# Altium footprint library UmbilicalConnectors.PcbLib: 33 footprints (part 3 of 3)
Each footprint in its own frame and in the unit in brackets; x right, y up, seen from the top. Pads: shape width x height; smd on the part's side, far side on the other; paste and mask are expansions set on the pad; w line width, h text height; cw(c..) or ccw(c..) is an arc to the next point about the centre after c.
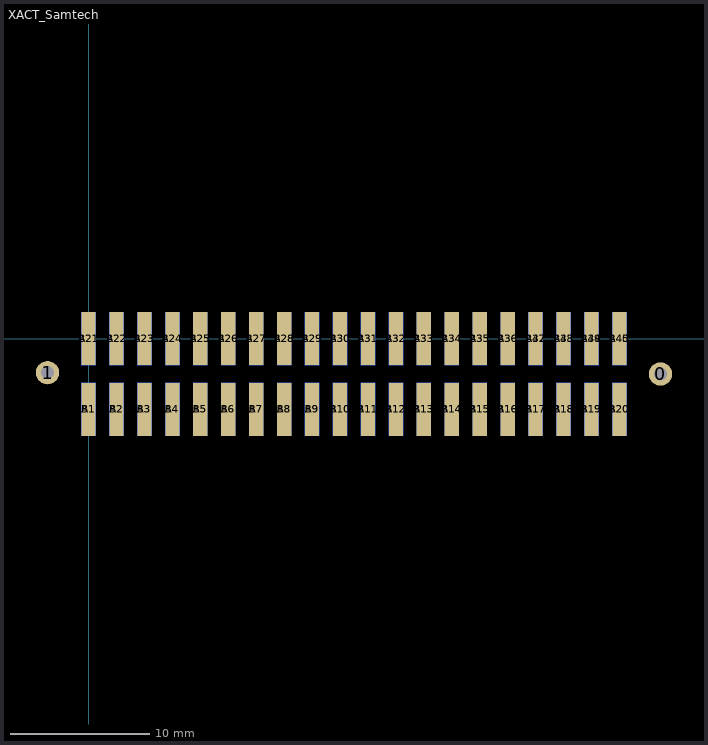
[diagram p2: the footprint, top view; thin cyan lines are the x and y axes]

## XACT_Samtech [mm] "T2M-140-01-L-D-SM-WT"
pads (82):
  round 1.676 hole 0.914 mask+0.076: 0(40.94,-2.535) 1(-2.94,-2.435)
  rect 1.02x3.8 smd: A1(0,-5.07) A2(2,-5.07) A3(4,-5.07) A4(6,-5.07) A5(8,-5.07) A6(10,-5.07) A7(12,-5.07) A8(14,-5.07) A9(16,-5.07) A10(18,-5.07) A11(20,-5.07) A12(22,-5.07) A13(24,-5.07) A14(26,-5.07) A15(28,-5.07) A16(30,-5.07) A17(32,-5.07) A18(34,-5.07) A19(36,-5.07) A20(38,-5.07) A21(0,0) A22(2,0) A23(4,0) A24(6,0) A25(8,0) A26(10,0) A27(12,0) A28(14,0) A29(16,0) A30(18,0) A31(20,0) A32(22,0) A33(24,0) A34(26,0) A35(28,0) A36(30,0) A37(32,0) A38(34,0) A39(36,0) A40(38,0)
  rect 1.02x3.8 smd far side: B1(0,-5.07) B2(2,-5.07) B3(4,-5.07) B4(6,-5.07) B5(8,-5.07) B6(10,-5.07) B7(12,-5.07) B8(14,-5.07) B9(16,-5.07) B10(18,-5.07) B11(20,-5.07) B12(22,-5.07) B13(24,-5.07) B14(26,-5.07) B15(28,-5.07) B16(30,-5.07) B17(32,-5.07) B18(34,-5.07) B19(36,-5.07) B20(38,-5.07) B21(0,0) B22(2,0) B23(4,0) B24(6,0) B25(8,0) B26(10,0) B27(12,0) B28(14,0) B29(16,0) B30(18,0) B31(20,0) B32(22,0) B33(24,0) B34(26,0) B35(28,0) B36(30,0) B42(32,0) B43(34,0) B44(36,0) B45(38,0)